# EAGLE library part ADE7978ACPZ (library ESWchips)
ADE7978 Chip
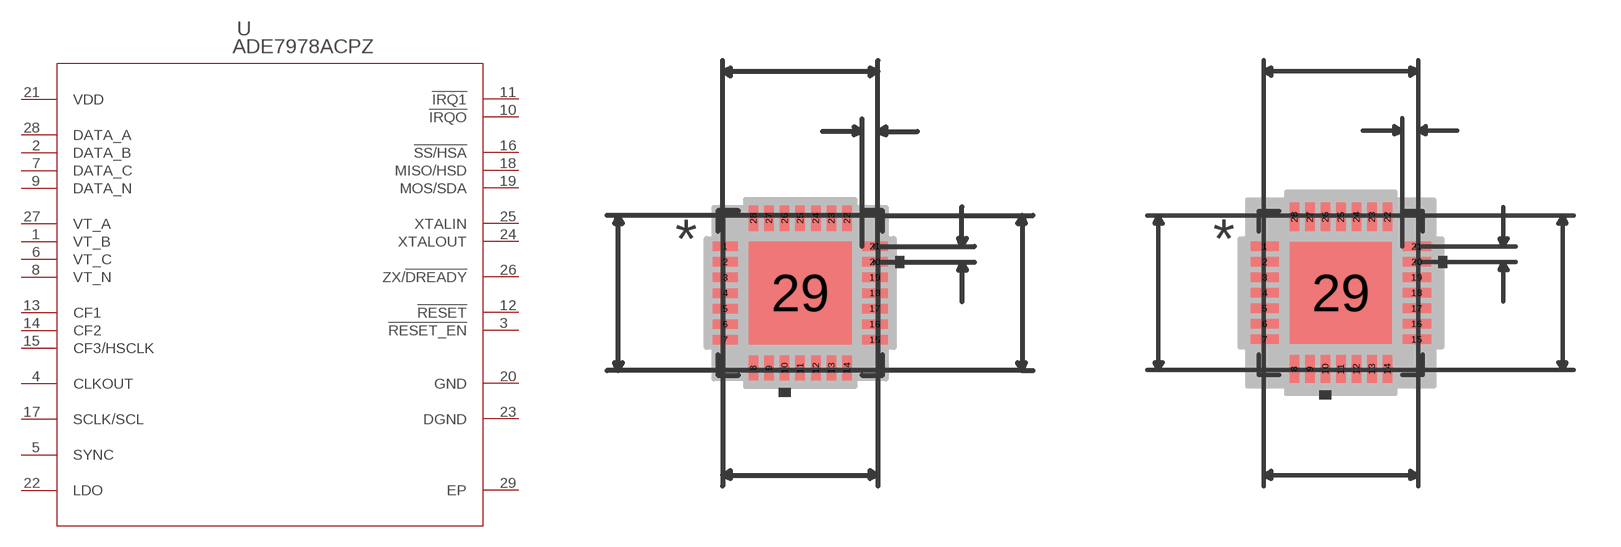
[diagram p0: symbol with the pads of CP_28_6; footprints CP_28_6, CP_28_6-M]

Designator prefix U

## ADE7978ACPZ  [CP_28_6]
1  VT_B  pas
2  DATA_B  pas
3  !RESET_EN  pas
4  CLKOUT  pas
5  SYNC  pas
6  VT_C  pas
7  DATA_C  pas
8  VT_N  pas
9  DATA_N  pas
10  !IRQO  pas
11  !IRQ1  pas
12  !RESET  pas
13  CF1  pas
14  CF2  pas
15  CF3/HSCLK  pas
16  !SS/HSA  pas
17  SCLK/SCL  pas
18  MISO/HSD  pas
19  MOS/SDA  pas
20  GND  pas
21  VDD  pas
22  LDO  pas
23  DGND  pas
24  XTALOUT  pas
25  XTALIN  pas
26  ZX/!DREADY  pas
27  VT_A  pas
28  DATA_A  pas
29  EP  pas

## ADE7978ACPZCP_28_6-M  [CP_28_6-M]
Pads as for CP_28_6

## ADE7978ACPZCP_28_6-L  [CP_28_6-L]
Pads as for CP_28_6

## Footprint CP_28_6 (pad centres in mm)
smd 0.813 x 0.305: 1 -2.4,1.5; 2 -2.4,1; 3 -2.4,0.5; 4 -2.4,0; 5 -2.4,-0.5; 6 -2.4,-1; 7 -2.4,-1.5; 15 2.4,-1.5; 16 2.4,-1; 17 2.4,-0.5; 18 2.4,0; 19 2.4,0.5; 20 2.4,1; 21 2.4,1.5
smd 0.305 x 0.813: 8 -1.5,-2.4; 9 -1,-2.4; 10 -0.5,-2.4; 11 0,-2.4; 12 0.5,-2.4; 13 1,-2.4; 14 1.5,-2.4; 22 1.5,2.4; 23 1,2.4; 24 0.5,2.4; 25 0,2.4; 26 -0.5,2.4; 27 -1,2.4; 28 -1.5,2.4
smd 3.3 x 3.3: 29 0,0

## Footprint CP_28_6-M (pad centres in mm)
smd 0.914 x 0.305: 1 -2.451,1.5; 2 -2.451,1; 3 -2.451,0.5; 4 -2.451,0; 5 -2.451,-0.5; 6 -2.451,-1; 7 -2.451,-1.5; 15 2.451,-1.5; 16 2.451,-1; 17 2.451,-0.5; 18 2.451,0; 19 2.451,0.5; 20 2.451,1; 21 2.451,1.5
smd 0.305 x 0.914: 8 -1.5,-2.451; 9 -1,-2.451; 10 -0.5,-2.451; 11 0,-2.451; 12 0.5,-2.451; 13 1,-2.451; 14 1.5,-2.451; 22 1.5,2.451; 23 1,2.451; 24 0.5,2.451; 25 0,2.451; 26 -0.5,2.451; 27 -1,2.451; 28 -1.5,2.451
smd 3.3 x 3.3: 29 0,0

## Footprint CP_28_6-L (pad centres in mm)
smd 0.711 x 0.305: 1 -2.349,1.5; 2 -2.349,1; 3 -2.349,0.5; 4 -2.349,0; 5 -2.349,-0.5; 6 -2.349,-1; 7 -2.349,-1.5; 15 2.349,-1.5; 16 2.349,-1; 17 2.349,-0.5; 18 2.349,0; 19 2.349,0.5; 20 2.349,1; 21 2.349,1.5
smd 0.305 x 0.711: 8 -1.5,-2.349; 9 -1,-2.349; 10 -0.5,-2.349; 11 0,-2.349; 12 0.5,-2.349; 13 1,-2.349; 14 1.5,-2.349; 22 1.5,2.349; 23 1,2.349; 24 0.5,2.349; 25 0,2.349; 26 -0.5,2.349; 27 -1,2.349; 28 -1.5,2.349
smd 3.3 x 3.3: 29 0,0